# Altium footprint library Buttons.PcbLib: 4 footprints
Each footprint in its own frame and in the unit in brackets; x right, y up, seen from the top. Pads: shape width x height; smd on the part's side, far side on the other; paste and mask are expansions set on the pad; w line width, h text height; cw(c..) or ccw(c..) is an arc to the next point about the centre after c.
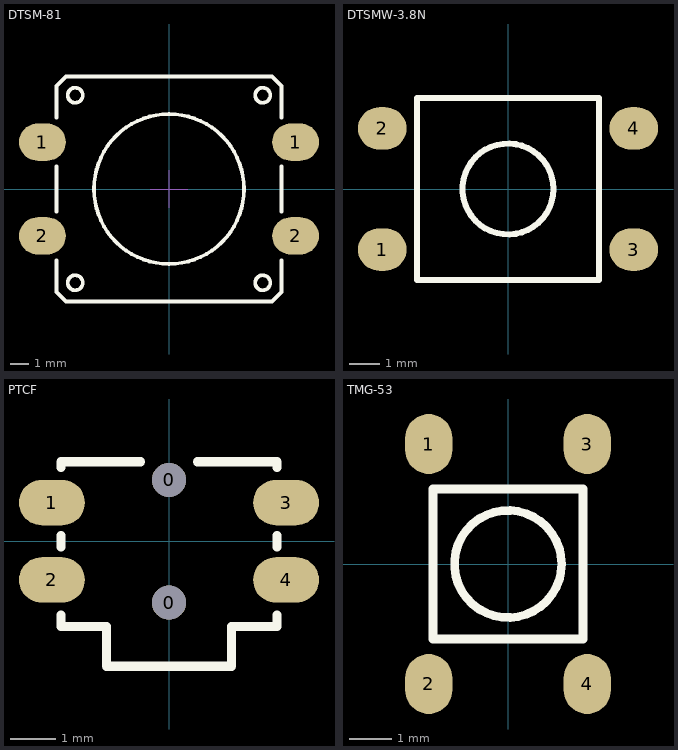
[diagram p0: the footprints below, top view; thin cyan lines are the x and y axes]

## DTSM-81 [mm]
pads (4):
  oval 2.5x2 smd mask+0.1: 1(-6.75,2.5) 1(6.75,2.5) 2(-6.75,-2.5) 2(6.75,-2.5)
Top Overlay:
  circle w0.2: c0,0 r4
  circle w0.2: c5,5 r0.4
  circle w0.2: c5,-5 r0.4
  circle w0.2: c-5,-5 r0.4
  circle w0.2: c-5,5 r0.4
  lines w0.2: -6,-3.8 -6,-5.5 -5.5,-6 5.5,-6 6,-5.5 6,-3.8 ; -6,-1.2 -6,1.2 ; -6,3.8 -6,5.5 -5.5,6 5.5,6 6,5.5 6,3.8 ; 6,-1.2 6,1.2
Mechanical 15:
  lines w0.05: -1,0 1,0 ; 0,-1 0,1
3D body: height 7.32, standoff 0.02, extent -7.6,-6 7.6,6

## DTSMW-3.8N [mm] "Surface Mount DTSM Tact Switch; Body 6 x 6 mm (LxW)"
pads (4):
  oval 1.6x1.4 smd mask+0.1: 1(-4.15,-2) 2(-4.15,2) 3(4.15,-2) 4(4.15,2)
Top Overlay:
  circle w0.2: c0,0 r1.5
  lines w0.2: -3,-3 3,-3 3,3 -3,3 -3,-3
3D body: height 4.01, standoff 0.02, extent -4.493,-3.1 4.493,3.1

## PTCF [mm]
height 1.67
pads (6):
  round 0.75 hole 0.75 unplated mask+0.1: 0(0,-1.35) 0(0,1.35)
  oval 1.45x1 smd mask+0.1: 1(-2.575,0.85) 2(-2.575,-0.85) 3(2.575,0.85) 4(2.575,-0.85)
Top Overlay:
  lines w0.2: -2.375,-1.625 -2.375,-1.875 -1.375,-1.875 -1.375,-2.75 1.375,-2.75 1.375,-1.875 2.375,-1.875 2.375,-1.625 ; -2.375,-0.125 -2.375,0.125 ; -2.375,1.625 -2.375,1.75 -0.625,1.75 ; 0.625,1.75 2.375,1.75 2.375,1.625 ; 2.375,-0.125 2.375,0.125
3D body: height 1.69, standoff -0.58, extent -2.95,-2.75 2.95,1.75

## TMG-53 [mm]
pads (4):
  oval 1.1x1.4 smd mask+0.1: 1(-1.85,2.8) 2(-1.85,-2.8) 3(1.85,2.8) 4(1.85,-2.8)
Top Overlay:
  circle w0.2: c0,0 r1.25
  lines w0.2: -1.75,-1.75 1.75,-1.75 1.75,1.75 -1.75,1.75 -1.75,-1.75
3D body: height 1.52, standoff 0.02, extent -2.6,-3.15 2.6,3.15